# Altium schematic symbol library pre_CAPACITOR.SchLib: 5 symbols
Pins are listed as number, name and electrical type; pins without a type are passive.

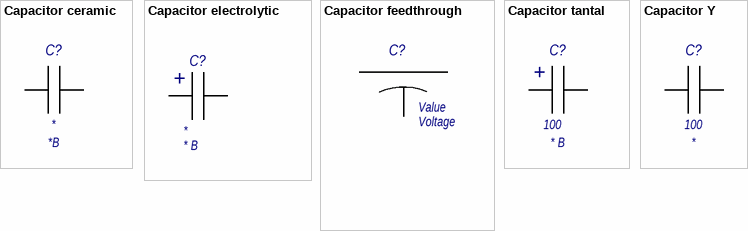
[diagram p0: symbols Capacitor ceramic to Capacitor Y]

## Capacitor ceramic
designator C?  Voltage: *В  (hidden comment: *)
Capacitance: * x *В; Dielectric: *; Tolerance: *; Value: *
footprint C2220
footprint C0603 (Chip Capacitor, 2-Leads, Body 1,60x0,80mm, IPC Medium Density)
simulation model CAP (Capacitor)
signal-integrity model Kemet
footprint C1808
footprint C0805_
footprint C1206_
footprint C1210_
footprint C1812_
pins: 1, 2

## Capacitor electrolytic
designator C?  Voltage: * В  (hidden comment: *)
Famile: Capacitor; Tolerance: ±20%; Polarization: Polar; Capacitance: * x * В; Category: Capacitors; Operating Temperature: -40°C ~ 105°C; Package / Case: Radial, Can - SMD; ComponentLink1Description: Параметры; ComponentLink1URL: 5\res\Справочники\Конденсаторы\KEM_A4003_EXV.pdf; Dielectric: *; Value: *
footprint 9B_4х5,4
footprint 9D_5х5,4
footprint 9G_6,3х5,4
footprint 9H_6,3х7,7
footprint 9M_8х10.2
footprint 9P_10х10.2
footprint rad_cap_10х12
pins: 1 A, 2 K
text: +

## Capacitor feedthrough
designator C?
Capacitance: Value x Voltage; Dielectric: *; Tolerance: *; Voltage: Voltage; Value: Value
footprint C0805_NFM21C_Stries
pins: 1, 2, 3

## Capacitor tantal
designator C?, comment value 100  Voltage: * В  (hidden comment: T491)
Solid Tantalum Chip Capacitor, Standard T491 Series - Industrial Grade; Capacitance: 100 x * В; ComponentLink1Description: Manufacturer Link; ComponentLink2Description: Datasheet; ComponentLink1URL: http://www.kemet.com/; ComponentLink2URL: http://www.kemet.com/kemet/web/homepage/kechome.nsf/vapubfilesname/F3102TA.pdf/$file/F3102TA.pdf; Dielectric: *; Tolerance: *
footprint A (Capacitor, SM Tantalum; Body 3.2 x 1.6 mm (LxW typ))
footprint B (Capacitor, SM Tantalum; Body 3.5 x 2.8 mm (LxW typ))
footprint C (Capacitor, SM Tantalum; Body 6.0 x 3.2 mm (LxW typ))
footprint E (Capacitor, SM Tantalum; Body 7.3 x 6.0 mm (LxW typ))
footprint R (Capacitor, SM Tantalum; Body 2.0 x 1.3 mm (LxW typ))
footprint S (Capacitor, SM Tantalum; Body 3.2 x 1.6 mm (LxW typ))
footprint T (Capacitor, SM Tantalum; Body 3.5 x 2.8 mm (LxW typ))
footprint U (Capacitor, SM Tantalum; Body 6.0 x 3.2 mm (LxW typ))
footprint V (Capacitor, SM Tantalum; Body 7.3 x 4.3 mm (LxW typ))
footprint X (Capacitor, SM Tantalum; Body 7.3 x 4.3 mm (LxW typ))
simulation model CAP (Capacitor)
signal-integrity model T491
footprint D_ (Capacitor, SM Tantalum; Body 7.3 x 4.3 mm (LxW typ))
pins: 1, 2
text: +

## Capacitor Y
designator C?  value 100  (hidden comment: *)
Capacitance: 100 x *; Dielectric: *; Tolerance: *; Voltage: *
footprint VY1472M51Y5VQ6xx0
pins: 1, 2